# Altium footprint library SnapEDApcb.PcbLib: 1 footprints
Each footprint in its own frame and in the unit in brackets; x right, y up, seen from the top. Pads: shape width x height; smd on the part's side, far side on the other; paste and mask are expansions set on the pad; w line width, h text height; cw(c..) or ccw(c..) is an arc to the next point about the centre after c.
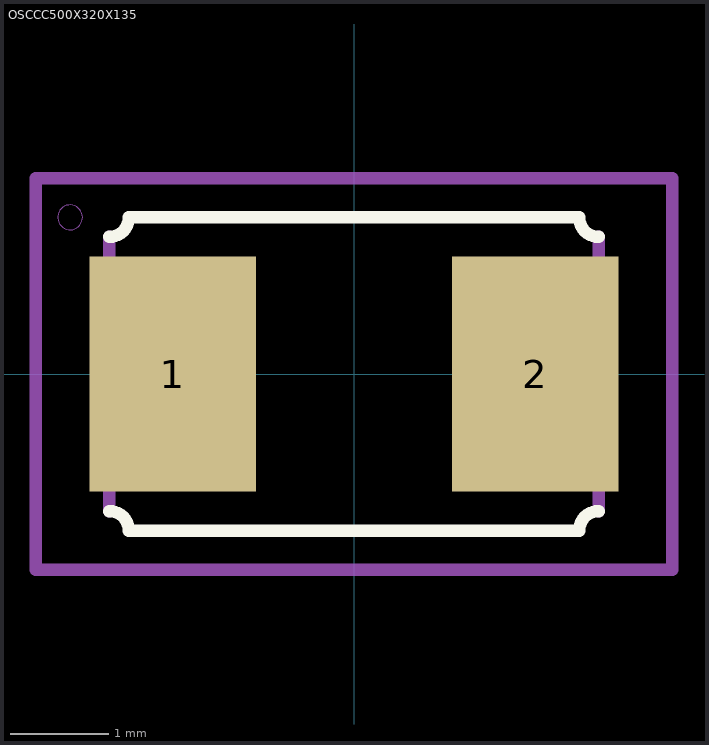
[diagram p0: the footprint, top view; thin cyan lines are the x and y axes]

## OSCCC500X320X135 [mm]
pads (2):
  rect 1.7x2.4 smd: 1(-1.85,0) 2(1.85,0)
Top Overlay:
  lines w0.127: -2.5,-1.4 cw(c-2.5,-1.6) -2.3,-1.6 2.3,-1.6 cw(c2.5,-1.6) 2.5,-1.4 ; -2.5,1.4 ccw(c-2.5,1.6) -2.3,1.6 2.3,1.6 ccw(c2.5,1.6) 2.5,1.4
Mechanical 13:
  circle w0: c-2.9,1.6 r0.127
  lines w0.127: -2.5,-1.4 -2.5,1.4 ; 2.5,-1.4 2.5,1.4
Mechanical 15:
  lines w0.127: -3.25,-2 -3.25,2 3.25,2 3.25,-2 -3.25,-2
3D body "5032_crystal_oscillator.step": height 0.8, standoff 0, extent -2.5,-1.6 2.5,1.6